# Altium schematic symbol library IND - Power Fixed Inductors (Surface Mount).SchLib: 3 symbols
Pins are listed as number, name and electrical type; pins without a type are passive.

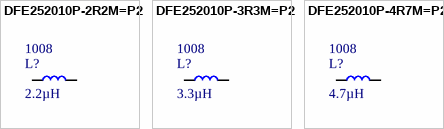
[diagram p0: symbols DFE252010P-2R2M=P2 to DFE252010P-4R7M=P2]

## DFE252010P-2R2M=P2
designator L?, comment 2.2µH  Package: 1008
FIXED IND 2.2UH 2.6A 115 MOHM; Manufacturer: Murata Electronics North America; Manufacturer Part Number: DFE252010P-2R2M=P2; Type: Wirewound; Material - Core: Powdered Iron; Tolerance: ±20%; Shielding: Shielded; DC Resistance (DCR): 115 mOhm Max; Frequency - Test: 1MHz; Supplier 1: Digi-Key; Supplier Part Number 1: 490-10637-1-ND; RoHS: RoHS Compliant; Category: Inductors, Coils, Chokes; Stock 1: 1783; Pricing 1: 1=0.51, 10=0.443, 25=0.4116, 50=0.3484, 100=0.3167, 250=0.29768, 500=0.266, 1000=0.21534 (USD); Packaging: Cut Tape (CT); Part Status: Active; Inductance: 2.2µH; Current Rating: 2.6A; Current - Saturation: -; Q @ Freq: -; Frequency - Self Resonant: -; Ratings: -; Operating Temperature: -40°C ~ 125°C; Mounting Type: Surface Mount; Supplier Device Package: 1008 (2520 Metric); Size / Dimension: 0.098" L x 0.079" W (2.50mm x 2.00mm); Height - Seated (Max): 0.039" (1.00mm); ComponentLink1URL: http://www.murata.com/~/media/webrenewal/products/inductor/chip/tokoproducts/wirewoundmetalalloychiptype/m_dfe252010p.ashx; ComponentLink1Description: http://www.murata.com/~/media/webrenewal/products/inductor/chip/tokoproducts/wirewoundmetalalloychiptype/m_dfe252010p.ashx
footprint L 1008 (2520) (Chip Capacitor, 2-Leads, Body 2.0x1.3mm, IPC Medium Density)
pins: 1, 2

## DFE252010P-3R3M=P2
designator L?, comment 3.3µH  Package: 1008
FIXED IND 3.3UH 2.1A 195 MOHM; Manufacturer: Murata Electronics North America; Manufacturer Part Number: DFE252010P-3R3M=P2; Type: Wirewound; Material - Core: Powdered Iron; Tolerance: ±20%; Shielding: Shielded; DC Resistance (DCR): 195 mOhm Max; Frequency - Test: 1MHz; Supplier 1: Digi-Key; Supplier Part Number 1: 490-10638-1-ND; RoHS: RoHS Compliant; Category: Inductors, Coils, Chokes; Stock 1: 2820; Pricing 1: 1=0.51, 10=0.443, 25=0.4116, 50=0.3484, 100=0.3167, 250=0.29768, 500=0.266, 1000=0.21534 (USD); Packaging: Cut Tape (CT); Part Status: Active; Inductance: 3.3µH; Current Rating: 2.1A; Current - Saturation: -; Q @ Freq: -; Frequency - Self Resonant: -; Ratings: -; Operating Temperature: -40°C ~ 125°C; Mounting Type: Surface Mount; Supplier Device Package: 1008 (2520 Metric); Size / Dimension: 0.098" L x 0.079" W (2.50mm x 2.00mm); Height - Seated (Max): 0.039" (1.00mm); ComponentLink1URL: http://www.murata.com/~/media/webrenewal/products/inductor/chip/tokoproducts/wirewoundmetalalloychiptype/m_dfe252010p.ashx; ComponentLink1Description: http://www.murata.com/~/media/webrenewal/products/inductor/chip/tokoproducts/wirewoundmetalalloychiptype/m_dfe252010p.ashx
footprint L 1008 (2520) (Chip Capacitor, 2-Leads, Body 2.0x1.3mm, IPC Medium Density)
pins: 1, 2

## DFE252010P-4R7M=P2
designator L?, comment 4.7µH  Package: 1008
FIXED IND 4.7UH 1.7A 270 MOHM; Manufacturer: Murata Electronics North America; Manufacturer Part Number: DFE252010P-4R7M=P2; Type: Wirewound; Material - Core: Powdered Iron; Tolerance: ±20%; Shielding: Shielded; DC Resistance (DCR): 270 mOhm Max; Frequency - Test: 1MHz; Supplier 1: Digi-Key; Supplier Part Number 1: 490-10639-1-ND; RoHS: RoHS Compliant; Category: Inductors, Coils, Chokes; Stock 1: 1730; Pricing 1: 1=0.51, 10=0.443, 25=0.4116, 50=0.3484, 100=0.3167, 250=0.29768, 500=0.266, 1000=0.21534 (USD); Packaging: Cut Tape (CT); Part Status: Active; Inductance: 4.7µH; Current Rating: 1.7A; Current - Saturation: -; Q @ Freq: -; Frequency - Self Resonant: -; Ratings: -; Operating Temperature: -40°C ~ 125°C; Mounting Type: Surface Mount; Supplier Device Package: 1008 (2520 Metric); Size / Dimension: 0.098" L x 0.079" W (2.50mm x 2.00mm); Height - Seated (Max): 0.039" (1.00mm); ComponentLink1URL: http://www.murata.com/~/media/webrenewal/products/inductor/chip/tokoproducts/wirewoundmetalalloychiptype/m_dfe252010p.ashx; ComponentLink1Description: http://www.murata.com/~/media/webrenewal/products/inductor/chip/tokoproducts/wirewoundmetalalloychiptype/m_dfe252010p.ashx
footprint L 1008 (2520) (Chip Capacitor, 2-Leads, Body 2.0x1.3mm, IPC Medium Density)
pins: 1, 2